# Altium integrated library Linear Technology Power Management Battery Management.IntLib: 626 symbols (part 29 of 56)
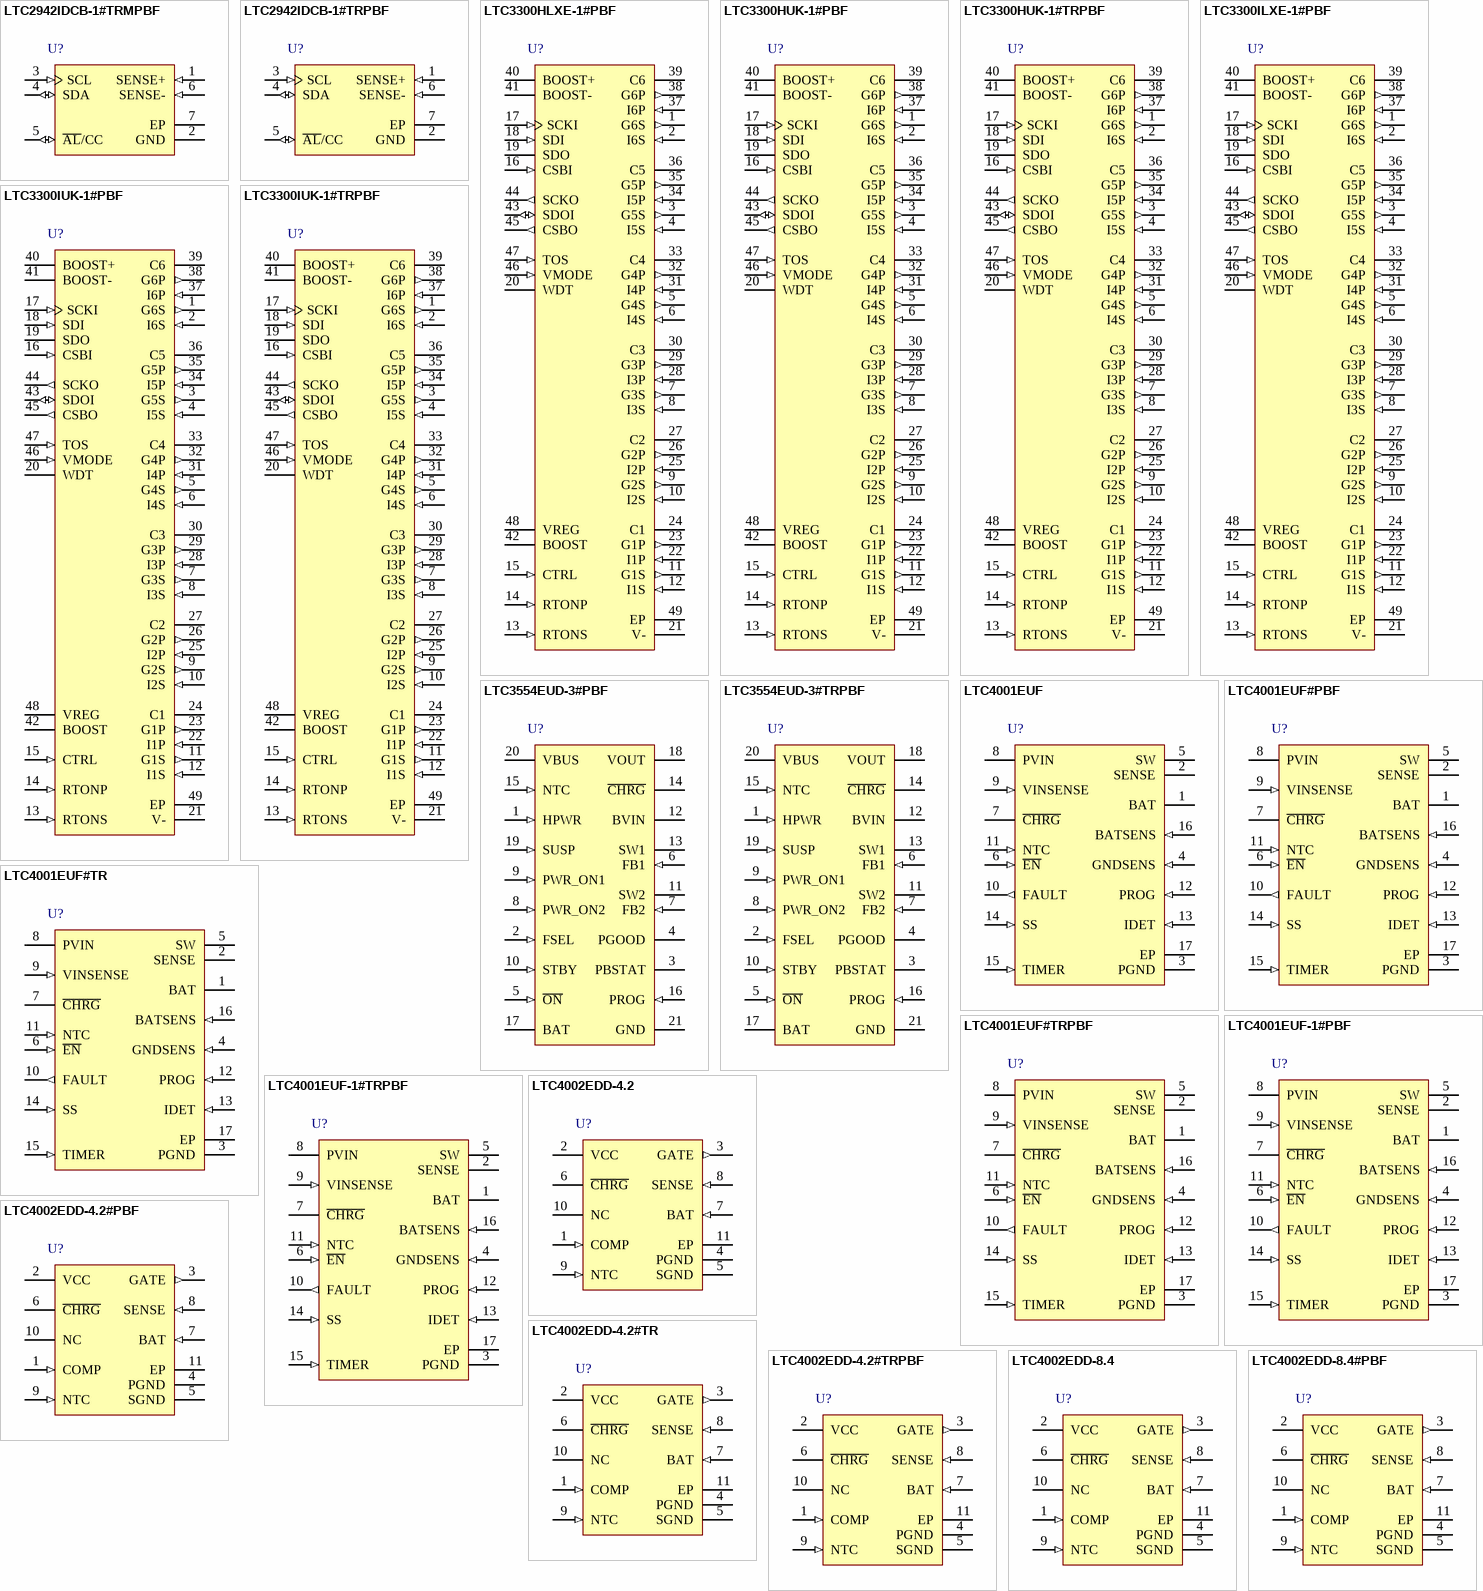
[diagram p50: symbols LTC2942IDCB-1#TRMPBF to LTC4002EDD-8.4#PBF]

## LTC4001EUF#TRPBF
designator U?
2 A Synchronous Buck Li-Ion Charger, 4 to 5.5 V Vin, 16-pin QFN (UF-16), -40 to 85 degC, Pb-Free, Tape and Reel; Manufacturer: Linear Technology; PartNumber: LTC4001EUF#TRPBF; Battery Chemistry: Li-Ion, Li-Polymer; Charge Termination: Timer; Float Voltage: 4.2 V; Max Charge Current(A): 2; Number of Cells: 1; Type of Charger: Switching; Vin Max(V): 5.5; Vin Min(V): 4; PackageVersion: Jun-10; PackageReference: UF-16; PackageDescription: 16-Pin Plastic QFN, Body 4 x 4 mm, Pitch 0.65 mm; Supplier 1: Digi-Key; Supplier Part Number 1: LTC4001EUF#TRPBF-ND; Supplier 2: Newark; Supplier Part Number 2: 56M8640; Packing: Tape and Reel; RoHS: TRUE; Mounting Technology: Surface Mount; Code_JEDEC: MO-220; ComponentLink1Description: Manufacturer URL; ComponentLink1URL: http://www.linear.com/; ComponentLink2Description: Datasheet; ComponentLink2URL: http://cds.linear.com/docs/en/datasheet/4001f.pdf; ComponentLink3Description: Package Specification; ComponentLink3URL: http://cds.linear.com/docs/en/packaging/QFN_16_05-08-1692.pdf
footprint LT-UF-16_N (QFN, 16-Leads, Body 4.1x4.1mm, Pitch 0.65mm, Thermal Pad 2.15x2.15mm, IPC Medium Density)
footprint LT-UF-16_L (QFN, 16-Leads, Body 4.1x4.1mm, Pitch 0.65mm, Thermal Pad 2.15x2.15mm, IPC High Density)
footprint LT-UF-16_M (QFN, 16-Leads, Body 4.1x4.1mm, Pitch 0.65mm, Thermal Pad 2.15x2.15mm, IPC Low Density)
pins: 1 BAT (power) "Battery Charger Output Terminal. Connect a 10uF ceramic chip capacitor between BAT and PGND to keep the ripple voltage small.", 2 SENSE "Internal Sense Resistor. Connect to external inductor.", 3 PGND (power) "Power Ground", 4 GNDSENS (in) "Ground Sense. Connect this pin to the negative battery terminal. GNDSENS provides a Kelvin connection for PGND and must be connected to PGND schematically.", 5 SW "Switch Node Connection. This pin connects to the drains of the internal main and synchronous power MOSFET switches. Connect to external inductor.", 6 ~{EN} (in) "Enable Input Pin. Pulling the E\N\ pin high places the LTC4001/LTC4001-1 into a low power state where the BAT drain current drops to less than 3uA and the supply current is reduced to less than 50uA. For normal operation, (See Datasheet)", 7 ~{CHRG} (hiz) "Open-Drain Charge Status Output. When the battery is being charged, C\H\R\G\ is pulled low by an internal N-channel MOSFET. When the charge current drops below the IDET threshold (set by the RIDET programming resistor) for (See Datasheet)", 8 PVIN (power) "Positive Supply Voltage Input. This pin connects to the power devices inside the chip. VIN ranges from 4V to 5.5V for normal operation. Operation down to the undervoltage lockout threshold is allowed with current limited (See Datasheet)", 9 VINSENSE (in) "Positive Supply Sense Input. This pin connects to the inputs of all input comparators (UVL, VIN to VBAT). It also supplies power to the controller portion of this chip. When the BATSENS pin rises to within 30mV of VINSENSE, (See Datasheet)", 10 FAULT (out) "Battery Fault. This pin is a logic high if a shorted battery is detected or if a temperature fault is detected. A temperature fault occurs with the temperature monitor circuit enabled and the thermistor temperature is either (See Datasheet)", 11 NTC (in) "Input to the NTC (Negative Temperature Coefficient) Thermistor Temperature Monitoring Circuit. Under normal operation, tie a thermistor from the NTC pin to the GNDSENS pin and a resistor of equal value from NTC to VIN. When (See Datasheet)", 12 PROG (in) "Charge Current Program. The RPROG resistor connects from this pin to GNDSENS, setting the current: RPROG =1.110k/IBAT(AMPS) where IBAT is the high rate battery charging current", 13 IDET (in) "Charge Rate Detection Threshold. Connecting a resistor, RIDET to GNDSENS programs the charge rate detection threshold. If RIDET = RPROG, C\H\R\G\ provides an IBAT/10 indication. For other thresholds see the Applications (See Datasheet)", 14 SS (in) "Soft-Start/Compensation. Provides soft-start function and compensation for the float voltage control loop and compensation for the charge current control loop. Tie a soft-start/compensation capacitor between this pin and (See Datasheet)", 15 TIMER (in) "Timer Capacitor. The timer period is set by placing a capacitor, CTIMER, to GNDSENS. Set CTIMER to:CTIMER = Time (Hrs) x 0.0733 (uF) where time is the desired charging time. Connect this pin to IDET to disable the timer. (See Datasheet)", 16 BATSENS (in) "Battery Sense Input. An internal resistor divider sets the final float voltage at this pin. The resistor divider is disconnected in sleep mode or when E\N\ = H to reduce the battery drain current. Connect this pin to the (See Datasheet)", 17 EP (power) "Ground. This pin must be soldered to the PCB ground (PGND) for electrical contact and rated thermal performance."

## LTC4001EUF-1#PBF
designator U?
2 A Synchronous Buck Li-Ion Charger, 4 to 5.5 V Vin, 16-pin QFN (UF-16), -40 to 85 degC, Pb-Free; Manufacturer: Linear Technology; PartNumber: LTC4001EUF-1#PBF; Battery Chemistry: Li-Ion, Li-Polymer; Charge Termination: Timer; Float Voltage: 4.1 V; Max Charge Current(A): 2; Number of Cells: 1; Type of Charger: Switching; Vin Max(V): 5.5; Vin Min(V): 4; DatasheetVersion: Rev. A; PackageVersion: Jun-10; PackageReference: UF-16; PackageDescription: 16-Pin Plastic QFN, Body 4 x 4 mm, Pitch 0.65 mm; Supplier 1: Digi-Key; Supplier Part Number 1: LTC4001EUF-1#PBF-ND; Supplier 2: Newark; Supplier Part Number 2: 56M8636; RoHS: TRUE; Mounting Technology: Surface Mount; Code_JEDEC: MO-220; ComponentLink1Description: Manufacturer URL; ComponentLink1URL: http://www.linear.com/; ComponentLink2Description: Datasheet; ComponentLink2URL: http://cds.linear.com/docs/en/datasheet/40011fa.pdf; ComponentLink3Description: Package Specification; ComponentLink3URL: http://cds.linear.com/docs/en/packaging/QFN_16_05-08-1692.pdf
footprint LT-UF-16_N (QFN, 16-Leads, Body 4.1x4.1mm, Pitch 0.65mm, Thermal Pad 2.15x2.15mm, IPC Medium Density)
footprint LT-UF-16_L (QFN, 16-Leads, Body 4.1x4.1mm, Pitch 0.65mm, Thermal Pad 2.15x2.15mm, IPC High Density)
footprint LT-UF-16_M (QFN, 16-Leads, Body 4.1x4.1mm, Pitch 0.65mm, Thermal Pad 2.15x2.15mm, IPC Low Density)
pins: 1 BAT (power) "Battery Charger Output Terminal. Connect a 10uF ceramic chip capacitor between BAT and PGND to keep the ripple voltage small.", 2 SENSE "Internal Sense Resistor. Connect to external inductor.", 3 PGND (power) "Power Ground", 4 GNDSENS (in) "Ground Sense. Connect this pin to the negative battery terminal. GNDSENS provides a Kelvin connection for PGND and must be connected to PGND schematically.", 5 SW "Switch Node Connection. This pin connects to the drains of the internal main and synchronous power MOSFET switches. Connect to external inductor.", 6 ~{EN} (in) "Enable Input Pin. Pulling the E\N\ pin high places the LTC4001/LTC4001-1 into a low power state where the BAT drain current drops to less than 3uA and the supply current is reduced to less than 50uA. For normal operation, (See Datasheet)", 7 ~{CHRG} (hiz) "Open-Drain Charge Status Output. When the battery is being charged, C\H\R\G\ is pulled low by an internal N-channel MOSFET. When the charge current drops below the IDET threshold (set by the RIDET programming resistor) for (See Datasheet)", 8 PVIN (power) "Positive Supply Voltage Input. This pin connects to the power devices inside the chip. VIN ranges from 4V to 5.5V for normal operation. Operation down to the undervoltage lockout threshold is allowed with current limited (See Datasheet)", 9 VINSENSE (in) "Positive Supply Sense Input. This pin connects to the inputs of all input comparators (UVL, VIN to VBAT). It also supplies power to the controller portion of this chip. When the BATSENS pin rises to within 30mV of VINSENSE, (See Datasheet)", 10 FAULT (out) "Battery Fault. This pin is a logic high if a shorted battery is detected or if a temperature fault is detected. A temperature fault occurs with the temperature monitor circuit enabled and the thermistor temperature is either (See Datasheet)", 11 NTC (in) "Input to the NTC (Negative Temperature Coefficient) Thermistor Temperature Monitoring Circuit. Under normal operation, tie a thermistor from the NTC pin to the GNDSENS pin and a resistor of equal value from NTC to VIN. When (See Datasheet)", 12 PROG (in) "Charge Current Program. The RPROG resistor connects from this pin to GNDSENS, setting the current: RPROG =1.110k/IBAT(AMPS) where IBAT is the high rate battery charging current", 13 IDET (in) "Charge Rate Detection Threshold. Connecting a resistor, RIDET to GNDSENS programs the charge rate detection threshold. If RIDET = RPROG, C\H\R\G\ provides an IBAT/10 indication. For other thresholds see the Applications (See Datasheet)", 14 SS (in) "Soft-Start/Compensation. Provides soft-start function and compensation for the float voltage control loop and compensation for the charge current control loop. Tie a soft-start/compensation capacitor between this pin and (See Datasheet)", 15 TIMER (in) "Timer Capacitor. The timer period is set by placing a capacitor, CTIMER, to GNDSENS. Set CTIMER to:CTIMER = Time (Hrs) x 0.0733 (uF) where time is the desired charging time. Connect this pin to IDET to disable the timer. (See Datasheet)", 16 BATSENS (in) "Battery Sense Input. An internal resistor divider sets the final float voltage at this pin. The resistor divider is disconnected in sleep mode or when E\N\ = H to reduce the battery drain current. Connect this pin to the (See Datasheet)", 17 EP (power) "Ground. This pin must be soldered to the PCB ground (PGND) for electrical contact and rated thermal performance."

## LTC4001EUF-1#TRPBF
designator U?
2 A Synchronous Buck Li-Ion Charger, 4 to 5.5 V Vin, 16-pin QFN (UF-16), -40 to 85 degC, Pb-Free, Tape and Reel; Manufacturer: Linear Technology; PartNumber: LTC4001EUF-1#TRPBF; Battery Chemistry: Li-Ion, Li-Polymer; Charge Termination: Timer; Float Voltage: 4.1 V; Max Charge Current(A): 2; Number of Cells: 1; Type of Charger: Switching; Vin Max(V): 5.5; Vin Min(V): 4; DatasheetVersion: Rev. A; PackageVersion: Jun-10; PackageReference: UF-16; PackageDescription: 16-Pin Plastic QFN, Body 4 x 4 mm, Pitch 0.65 mm; Supplier 1: Digi-Key; Supplier Part Number 1: LTC4001EUF-1#TRPBF-ND; Packing: Tape and Reel; RoHS: TRUE; Mounting Technology: Surface Mount; Code_JEDEC: MO-220; ComponentLink1Description: Manufacturer URL; ComponentLink1URL: http://www.linear.com/; ComponentLink2Description: Datasheet; ComponentLink2URL: http://cds.linear.com/docs/en/datasheet/40011fa.pdf; ComponentLink3Description: Package Specification; ComponentLink3URL: http://cds.linear.com/docs/en/packaging/QFN_16_05-08-1692.pdf
footprint LT-UF-16_N (QFN, 16-Leads, Body 4.1x4.1mm, Pitch 0.65mm, Thermal Pad 2.15x2.15mm, IPC Medium Density)
footprint LT-UF-16_L (QFN, 16-Leads, Body 4.1x4.1mm, Pitch 0.65mm, Thermal Pad 2.15x2.15mm, IPC High Density)
footprint LT-UF-16_M (QFN, 16-Leads, Body 4.1x4.1mm, Pitch 0.65mm, Thermal Pad 2.15x2.15mm, IPC Low Density)
pins: 1 BAT (power) "Battery Charger Output Terminal. Connect a 10uF ceramic chip capacitor between BAT and PGND to keep the ripple voltage small.", 2 SENSE "Internal Sense Resistor. Connect to external inductor.", 3 PGND (power) "Power Ground", 4 GNDSENS (in) "Ground Sense. Connect this pin to the negative battery terminal. GNDSENS provides a Kelvin connection for PGND and must be connected to PGND schematically.", 5 SW "Switch Node Connection. This pin connects to the drains of the internal main and synchronous power MOSFET switches. Connect to external inductor.", 6 ~{EN} (in) "Enable Input Pin. Pulling the E\N\ pin high places the LTC4001/LTC4001-1 into a low power state where the BAT drain current drops to less than 3uA and the supply current is reduced to less than 50uA. For normal operation, (See Datasheet)", 7 ~{CHRG} (hiz) "Open-Drain Charge Status Output. When the battery is being charged, C\H\R\G\ is pulled low by an internal N-channel MOSFET. When the charge current drops below the IDET threshold (set by the RIDET programming resistor) for (See Datasheet)", 8 PVIN (power) "Positive Supply Voltage Input. This pin connects to the power devices inside the chip. VIN ranges from 4V to 5.5V for normal operation. Operation down to the undervoltage lockout threshold is allowed with current limited (See Datasheet)", 9 VINSENSE (in) "Positive Supply Sense Input. This pin connects to the inputs of all input comparators (UVL, VIN to VBAT). It also supplies power to the controller portion of this chip. When the BATSENS pin rises to within 30mV of VINSENSE, (See Datasheet)", 10 FAULT (out) "Battery Fault. This pin is a logic high if a shorted battery is detected or if a temperature fault is detected. A temperature fault occurs with the temperature monitor circuit enabled and the thermistor temperature is either (See Datasheet)", 11 NTC (in) "Input to the NTC (Negative Temperature Coefficient) Thermistor Temperature Monitoring Circuit. Under normal operation, tie a thermistor from the NTC pin to the GNDSENS pin and a resistor of equal value from NTC to VIN. When (See Datasheet)", 12 PROG (in) "Charge Current Program. The RPROG resistor connects from this pin to GNDSENS, setting the current: RPROG =1.110k/IBAT(AMPS) where IBAT is the high rate battery charging current", 13 IDET (in) "Charge Rate Detection Threshold. Connecting a resistor, RIDET to GNDSENS programs the charge rate detection threshold. If RIDET = RPROG, C\H\R\G\ provides an IBAT/10 indication. For other thresholds see the Applications (See Datasheet)", 14 SS (in) "Soft-Start/Compensation. Provides soft-start function and compensation for the float voltage control loop and compensation for the charge current control loop. Tie a soft-start/compensation capacitor between this pin and (See Datasheet)", 15 TIMER (in) "Timer Capacitor. The timer period is set by placing a capacitor, CTIMER, to GNDSENS. Set CTIMER to:CTIMER = Time (Hrs) x 0.0733 (uF) where time is the desired charging time. Connect this pin to IDET to disable the timer. (See Datasheet)", 16 BATSENS (in) "Battery Sense Input. An internal resistor divider sets the final float voltage at this pin. The resistor divider is disconnected in sleep mode or when E\N\ = H to reduce the battery drain current. Connect this pin to the (See Datasheet)", 17 EP (power) "Ground. This pin must be soldered to the PCB ground (PGND) for electrical contact and rated thermal performance."

## LTC4002EDD-4.2
designator U?
Standalone Li-Ion Switch Mode Battery Charger, 4.7 to 22 V Vin, 10-pin SON (DD-10), -40 to 85 degC; Manufacturer: Linear Technology; PartNumber: LTC4002EDD-4.2; Battery Chemistry: Li-Ion, Li-Polymer; Charge Termination: On-board timer; Float Voltage: 4.2 V; Number of Cells: 1; Type of Charger: Switching; Vin Max(V): 22; Vin Min(V): 4.7; PackageVersion: Rev. C, 06/2010; PackageReference: DD-10; PackageDescription: 10-Pin Plastic DFN, Body 3 x 3 mm, Pitch 0.5 mm; Supplier 1: Digi-Key; Supplier Part Number 1: LTC4002EDD-4.2-ND; RoHS: FALSE; Mounting Technology: Surface Mount; Code_JEDEC: MO-229; ComponentLink1Description: Manufacturer URL; ComponentLink1URL: http://www.linear.com/; ComponentLink2Description: Datasheet; ComponentLink2URL: http://cds.linear.com/docs/en/datasheet/4002f.pdf; ComponentLink3Description: Package Specification; ComponentLink3URL: http://cds.linear.com/docs/en/packaging/DFN_10_05-08-1699.pdf
footprint LT-DD-10_V (SON, 10-Leads, Body 3x3mm, Pitch 0.5mm, Thermal Pad 2.38x1.65mm)
pins: 1 COMP (in) "Compensation, Soft-Start and Shutdown Control Pin. The COMP pin is the control signal of the inner loop of the current mode PWM. Charging begins when the COMP pin reaches 800mV. The recommended compensation components are a (See Datasheet)", 2 VCC (power) "Positive Supply Voltage Input. VCC can range from VBAT(FLT) + 0.5V to 22V. A 0.1uF or higher capacitor is required at the VCC pin with the lead length kept to a minimum. A 10uF low ESR capacitor is also required at the (See Datasheet)", 3 GATE (out) "Gate Drive Output. Driver Output for the P-Channel MOSFET. The voltage at this pin is internally clamped to 8V below VCC, allowing a low voltage MOSFET with gate-to-source breakdown voltage of 8V or less to be used.", 4 PGND (power) "IC Ground. The exposed pad (DFN) must be soldered to PCB ground to provide both electrical contact and optimum thermal performance.", 5 SGND (power) "IC Ground. The exposed pad (DFN) must be soldered to PCB ground to provide both electrical contact and optimum thermal performance.", 6 ~{CHRG} (hiz) "Open-Drain Charge Status Output. When the battery is being charged, the C\H\R\G\ pin is pulled low by an internal N-channel MOSFET. When the charge current drops below the End-of-Charge threshold for more than 120us, the (See Datasheet)", 7 BAT (in) "Battery Sense Input. A bypass capacitor of 22uF is required to minimize ripple voltage. An internal resistor divider, which is disconnected in sleepmode, sets the final float voltage at this pin. If the battery connection is (See Datasheet)", 8 SENSE (in) "Current Amplifier Sense Input. A sense resistor, RSENSE, must be connected between the SENSE and BAT pins. The maximum charge current is equal to 100mV/RSENSE.", 9 NTC (in) "NTC (Negative Temperature Coefficient) Thermistor Input. With an external 10kohm NTC thermistor to ground, this pin senses the temperature of the battery pack and stops the charger when the temperature is out of range.", 10 NC "No Connect.", 11 EP (power) "IC Ground. The exposed pad (DFN) must be soldered to PCB ground to provide both electrical contact and optimum thermal performance."

## LTC4002EDD-4.2#PBF
designator U?
Standalone Li-Ion Switch Mode Battery Charger, 4.7 to 22 V Vin, 10-pin SON (DD-10), -40 to 85 degC, Pb-Free; Manufacturer: Linear Technology; PartNumber: LTC4002EDD-4.2#PBF; Battery Chemistry: Li-Ion, Li-Polymer; Charge Termination: On-board timer; Float Voltage: 4.2 V; Number of Cells: 1; Type of Charger: Switching; Vin Max(V): 22; Vin Min(V): 4.7; PackageVersion: Rev. C, 06/2010; PackageReference: DD-10; PackageDescription: 10-Pin Plastic DFN, Body 3 x 3 mm, Pitch 0.5 mm; Supplier 1: Digi-Key; Supplier Part Number 1: LTC4002EDD-4.2#PBF-ND; Supplier 2: Farnell; Supplier Part Number 2: 1648025; Supplier 3: Newark; Supplier Part Number 3: 58M0807; RoHS: TRUE; Mounting Technology: Surface Mount; Code_JEDEC: MO-229; ComponentLink1Description: Manufacturer URL; ComponentLink1URL: http://www.linear.com/; ComponentLink2Description: Datasheet; ComponentLink2URL: http://cds.linear.com/docs/en/datasheet/4002f.pdf; ComponentLink3Description: Package Specification; ComponentLink3URL: http://cds.linear.com/docs/en/packaging/DFN_10_05-08-1699.pdf
footprint LT-DD-10_V (SON, 10-Leads, Body 3x3mm, Pitch 0.5mm, Thermal Pad 2.38x1.65mm)
pins: 1 COMP (in) "Compensation, Soft-Start and Shutdown Control Pin. The COMP pin is the control signal of the inner loop of the current mode PWM. Charging begins when the COMP pin reaches 800mV. The recommended compensation components are a (See Datasheet)", 2 VCC (power) "Positive Supply Voltage Input. VCC can range from VBAT(FLT) + 0.5V to 22V. A 0.1uF or higher capacitor is required at the VCC pin with the lead length kept to a minimum. A 10uF low ESR capacitor is also required at the (See Datasheet)", 3 GATE (out) "Gate Drive Output. Driver Output for the P-Channel MOSFET. The voltage at this pin is internally clamped to 8V below VCC, allowing a low voltage MOSFET with gate-to-source breakdown voltage of 8V or less to be used.", 4 PGND (power) "IC Ground. The exposed pad (DFN) must be soldered to PCB ground to provide both electrical contact and optimum thermal performance.", 5 SGND (power) "IC Ground. The exposed pad (DFN) must be soldered to PCB ground to provide both electrical contact and optimum thermal performance.", 6 ~{CHRG} (hiz) "Open-Drain Charge Status Output. When the battery is being charged, the C\H\R\G\ pin is pulled low by an internal N-channel MOSFET. When the charge current drops below the End-of-Charge threshold for more than 120us, the (See Datasheet)", 7 BAT (in) "Battery Sense Input. A bypass capacitor of 22uF is required to minimize ripple voltage. An internal resistor divider, which is disconnected in sleepmode, sets the final float voltage at this pin. If the battery connection is (See Datasheet)", 8 SENSE (in) "Current Amplifier Sense Input. A sense resistor, RSENSE, must be connected between the SENSE and BAT pins. The maximum charge current is equal to 100mV/RSENSE.", 9 NTC (in) "NTC (Negative Temperature Coefficient) Thermistor Input. With an external 10kohm NTC thermistor to ground, this pin senses the temperature of the battery pack and stops the charger when the temperature is out of range.", 10 NC "No Connect.", 11 EP (power) "IC Ground. The exposed pad (DFN) must be soldered to PCB ground to provide both electrical contact and optimum thermal performance."

## LTC4002EDD-4.2#TR
designator U?
Standalone Li-Ion Switch Mode Battery Charger, 4.7 to 22 V Vin, 10-pin SON (DD-10), -40 to 85 degC, Tape and Reel; Manufacturer: Linear Technology; PartNumber: LTC4002EDD-4.2#TR; Battery Chemistry: Li-Ion, Li-Polymer; Charge Termination: On-board timer; Float Voltage: 4.2 V; Number of Cells: 1; Type of Charger: Switching; Vin Max(V): 22; Vin Min(V): 4.7; PackageVersion: Rev. C, 06/2010; PackageReference: DD-10; PackageDescription: 10-Pin Plastic DFN, Body 3 x 3 mm, Pitch 0.5 mm; Supplier 1: Digi-Key; Supplier Part Number 1: LTC4002EDD-4.2#TR-ND; Packing: Tape and Reel; RoHS: FALSE; Mounting Technology: Surface Mount; Code_JEDEC: MO-229; ComponentLink1Description: Manufacturer URL; ComponentLink1URL: http://www.linear.com/; ComponentLink2Description: Datasheet; ComponentLink2URL: http://cds.linear.com/docs/en/datasheet/4002f.pdf; ComponentLink3Description: Package Specification; ComponentLink3URL: http://cds.linear.com/docs/en/packaging/DFN_10_05-08-1699.pdf
footprint LT-DD-10_V (SON, 10-Leads, Body 3x3mm, Pitch 0.5mm, Thermal Pad 2.38x1.65mm)
pins: 1 COMP (in) "Compensation, Soft-Start and Shutdown Control Pin. The COMP pin is the control signal of the inner loop of the current mode PWM. Charging begins when the COMP pin reaches 800mV. The recommended compensation components are a (See Datasheet)", 2 VCC (power) "Positive Supply Voltage Input. VCC can range from VBAT(FLT) + 0.5V to 22V. A 0.1uF or higher capacitor is required at the VCC pin with the lead length kept to a minimum. A 10uF low ESR capacitor is also required at the (See Datasheet)", 3 GATE (out) "Gate Drive Output. Driver Output for the P-Channel MOSFET. The voltage at this pin is internally clamped to 8V below VCC, allowing a low voltage MOSFET with gate-to-source breakdown voltage of 8V or less to be used.", 4 PGND (power) "IC Ground. The exposed pad (DFN) must be soldered to PCB ground to provide both electrical contact and optimum thermal performance.", 5 SGND (power) "IC Ground. The exposed pad (DFN) must be soldered to PCB ground to provide both electrical contact and optimum thermal performance.", 6 ~{CHRG} (hiz) "Open-Drain Charge Status Output. When the battery is being charged, the C\H\R\G\ pin is pulled low by an internal N-channel MOSFET. When the charge current drops below the End-of-Charge threshold for more than 120us, the (See Datasheet)", 7 BAT (in) "Battery Sense Input. A bypass capacitor of 22uF is required to minimize ripple voltage. An internal resistor divider, which is disconnected in sleepmode, sets the final float voltage at this pin. If the battery connection is (See Datasheet)", 8 SENSE (in) "Current Amplifier Sense Input. A sense resistor, RSENSE, must be connected between the SENSE and BAT pins. The maximum charge current is equal to 100mV/RSENSE.", 9 NTC (in) "NTC (Negative Temperature Coefficient) Thermistor Input. With an external 10kohm NTC thermistor to ground, this pin senses the temperature of the battery pack and stops the charger when the temperature is out of range.", 10 NC "No Connect.", 11 EP (power) "IC Ground. The exposed pad (DFN) must be soldered to PCB ground to provide both electrical contact and optimum thermal performance."

## LTC4002EDD-4.2#TRPBF
designator U?
Standalone Li-Ion Switch Mode Battery Charger, 4.7 to 22 V Vin, 10-pin SON (DD-10), -40 to 85 degC, Pb-Free, Tape and Reel; Manufacturer: Linear Technology; PartNumber: LTC4002EDD-4.2#TRPBF; Battery Chemistry: Li-Ion, Li-Polymer; Charge Termination: On-board timer; Float Voltage: 4.2 V; Number of Cells: 1; Type of Charger: Switching; Vin Max(V): 22; Vin Min(V): 4.7; PackageVersion: Rev. C, 06/2010; PackageReference: DD-10; PackageDescription: 10-Pin Plastic DFN, Body 3 x 3 mm, Pitch 0.5 mm; Supplier 1: Digi-Key; Supplier Part Number 1: LTC4002EDD-4.2#TRPBFTR-ND; Supplier 2: Digi-Key; Supplier Part Number 2: LTC4002EDD-4.2#TRPBFCT-ND; Supplier 3: Digi-Key; Supplier Part Number 3: LTC4002EDD-4.2#TRPBFDKR-ND; Packing: Tape and Reel; RoHS: TRUE; Mounting Technology: Surface Mount; Code_JEDEC: MO-229; ComponentLink1Description: Manufacturer URL; ComponentLink1URL: http://www.linear.com/; ComponentLink2Description: Datasheet; ComponentLink2URL: http://cds.linear.com/docs/en/datasheet/4002f.pdf; ComponentLink3Description: Package Specification; ComponentLink3URL: http://cds.linear.com/docs/en/packaging/DFN_10_05-08-1699.pdf
footprint LT-DD-10_V (SON, 10-Leads, Body 3x3mm, Pitch 0.5mm, Thermal Pad 2.38x1.65mm)
pins: 1 COMP (in) "Compensation, Soft-Start and Shutdown Control Pin. The COMP pin is the control signal of the inner loop of the current mode PWM. Charging begins when the COMP pin reaches 800mV. The recommended compensation components are a (See Datasheet)", 2 VCC (power) "Positive Supply Voltage Input. VCC can range from VBAT(FLT) + 0.5V to 22V. A 0.1uF or higher capacitor is required at the VCC pin with the lead length kept to a minimum. A 10uF low ESR capacitor is also required at the (See Datasheet)", 3 GATE (out) "Gate Drive Output. Driver Output for the P-Channel MOSFET. The voltage at this pin is internally clamped to 8V below VCC, allowing a low voltage MOSFET with gate-to-source breakdown voltage of 8V or less to be used.", 4 PGND (power) "IC Ground. The exposed pad (DFN) must be soldered to PCB ground to provide both electrical contact and optimum thermal performance.", 5 SGND (power) "IC Ground. The exposed pad (DFN) must be soldered to PCB ground to provide both electrical contact and optimum thermal performance.", 6 ~{CHRG} (hiz) "Open-Drain Charge Status Output. When the battery is being charged, the C\H\R\G\ pin is pulled low by an internal N-channel MOSFET. When the charge current drops below the End-of-Charge threshold for more than 120us, the (See Datasheet)", 7 BAT (in) "Battery Sense Input. A bypass capacitor of 22uF is required to minimize ripple voltage. An internal resistor divider, which is disconnected in sleepmode, sets the final float voltage at this pin. If the battery connection is (See Datasheet)", 8 SENSE (in) "Current Amplifier Sense Input. A sense resistor, RSENSE, must be connected between the SENSE and BAT pins. The maximum charge current is equal to 100mV/RSENSE.", 9 NTC (in) "NTC (Negative Temperature Coefficient) Thermistor Input. With an external 10kohm NTC thermistor to ground, this pin senses the temperature of the battery pack and stops the charger when the temperature is out of range.", 10 NC "No Connect.", 11 EP (power) "IC Ground. The exposed pad (DFN) must be soldered to PCB ground to provide both electrical contact and optimum thermal performance."

## LTC4002EDD-8.4
designator U?
Standalone Li-Ion Switch Mode Battery Charger, 8.9 to 22 V Vin, 10-pin SON (DD-10), -40 to 85 degC; Manufacturer: Linear Technology; PartNumber: LTC4002EDD-8.4; Battery Chemistry: Li-Ion, Li-Polymer; Charge Termination: On-board timer; Float Voltage: 8.4 V; Number of Cells: 2; Type of Charger: Switching; Vin Max(V): 22; Vin Min(V): 8.9; PackageVersion: Rev. C, 06/2010; PackageReference: DD-10; PackageDescription: 10-Pin Plastic DFN, Body 3 x 3 mm, Pitch 0.5 mm; Supplier 1: Digi-Key; Supplier Part Number 1: LTC4002EDD-8.4-ND; RoHS: FALSE; Mounting Technology: Surface Mount; Code_JEDEC: MO-229; ComponentLink1Description: Manufacturer URL; ComponentLink1URL: http://www.linear.com/; ComponentLink2Description: Datasheet; ComponentLink2URL: http://cds.linear.com/docs/en/datasheet/4002f.pdf; ComponentLink3Description: Package Specification; ComponentLink3URL: http://cds.linear.com/docs/en/packaging/DFN_10_05-08-1699.pdf
footprint LT-DD-10_V (SON, 10-Leads, Body 3x3mm, Pitch 0.5mm, Thermal Pad 2.38x1.65mm)
pins: 1 COMP (in) "Compensation, Soft-Start and Shutdown Control Pin. The COMP pin is the control signal of the inner loop of the current mode PWM. Charging begins when the COMP pin reaches 800mV. The recommended compensation components are a (See Datasheet)", 2 VCC (power) "Positive Supply Voltage Input. VCC can range from VBAT(FLT) + 0.5V to 22V. A 0.1uF or higher capacitor is required at the VCC pin with the lead length kept to a minimum. A 10uF low ESR capacitor is also required at the (See Datasheet)", 3 GATE (out) "Gate Drive Output. Driver Output for the P-Channel MOSFET. The voltage at this pin is internally clamped to 8V below VCC, allowing a low voltage MOSFET with gate-to-source breakdown voltage of 8V or less to be used.", 4 PGND (power) "IC Ground. The exposed pad (DFN) must be soldered to PCB ground to provide both electrical contact and optimum thermal performance.", 5 SGND (power) "IC Ground. The exposed pad (DFN) must be soldered to PCB ground to provide both electrical contact and optimum thermal performance.", 6 ~{CHRG} (hiz) "Open-Drain Charge Status Output. When the battery is being charged, the C\H\R\G\ pin is pulled low by an internal N-channel MOSFET. When the charge current drops below the End-of-Charge threshold for more than 120us, the (See Datasheet)", 7 BAT (in) "Battery Sense Input. A bypass capacitor of 22uF is required to minimize ripple voltage. An internal resistor divider, which is disconnected in sleepmode, sets the final float voltage at this pin. If the battery connection is (See Datasheet)", 8 SENSE (in) "Current Amplifier Sense Input. A sense resistor, RSENSE, must be connected between the SENSE and BAT pins. The maximum charge current is equal to 100mV/RSENSE.", 9 NTC (in) "NTC (Negative Temperature Coefficient) Thermistor Input. With an external 10kohm NTC thermistor to ground, this pin senses the temperature of the battery pack and stops the charger when the temperature is out of range.", 10 NC "No Connect.", 11 EP (power) "IC Ground. The exposed pad (DFN) must be soldered to PCB ground to provide both electrical contact and optimum thermal performance."

## LTC4002EDD-8.4#PBF
designator U?
Standalone Li-Ion Switch Mode Battery Charger, 8.9 to 22 V Vin, 10-pin SON (DD-10), -40 to 85 degC, Pb-Free; Manufacturer: Linear Technology; PartNumber: LTC4002EDD-8.4#PBF; Battery Chemistry: Li-Ion, Li-Polymer; Charge Termination: On-board timer; Float Voltage: 8.4 V; Number of Cells: 2; Type of Charger: Switching; Vin Max(V): 22; Vin Min(V): 8.9; PackageVersion: Rev. C, 06/2010; PackageReference: DD-10; PackageDescription: 10-Pin Plastic DFN, Body 3 x 3 mm, Pitch 0.5 mm; Supplier 1: Digi-Key; Supplier Part Number 1: LTC4002EDD-8.4#PBF-ND; Supplier 2: Farnell; Supplier Part Number 2: 1648026; Supplier 3: Newark; Supplier Part Number 3: 58M0811; RoHS: TRUE; Mounting Technology: Surface Mount; Code_JEDEC: MO-229; ComponentLink1Description: Manufacturer URL; ComponentLink1URL: http://www.linear.com/; ComponentLink2Description: Datasheet; ComponentLink2URL: http://cds.linear.com/docs/en/datasheet/4002f.pdf; ComponentLink3Description: Package Specification; ComponentLink3URL: http://cds.linear.com/docs/en/packaging/DFN_10_05-08-1699.pdf
footprint LT-DD-10_V (SON, 10-Leads, Body 3x3mm, Pitch 0.5mm, Thermal Pad 2.38x1.65mm)
pins: 1 COMP (in) "Compensation, Soft-Start and Shutdown Control Pin. The COMP pin is the control signal of the inner loop of the current mode PWM. Charging begins when the COMP pin reaches 800mV. The recommended compensation components are a (See Datasheet)", 2 VCC (power) "Positive Supply Voltage Input. VCC can range from VBAT(FLT) + 0.5V to 22V. A 0.1uF or higher capacitor is required at the VCC pin with the lead length kept to a minimum. A 10uF low ESR capacitor is also required at the (See Datasheet)", 3 GATE (out) "Gate Drive Output. Driver Output for the P-Channel MOSFET. The voltage at this pin is internally clamped to 8V below VCC, allowing a low voltage MOSFET with gate-to-source breakdown voltage of 8V or less to be used.", 4 PGND (power) "IC Ground. The exposed pad (DFN) must be soldered to PCB ground to provide both electrical contact and optimum thermal performance.", 5 SGND (power) "IC Ground. The exposed pad (DFN) must be soldered to PCB ground to provide both electrical contact and optimum thermal performance.", 6 ~{CHRG} (hiz) "Open-Drain Charge Status Output. When the battery is being charged, the C\H\R\G\ pin is pulled low by an internal N-channel MOSFET. When the charge current drops below the End-of-Charge threshold for more than 120us, the (See Datasheet)", 7 BAT (in) "Battery Sense Input. A bypass capacitor of 22uF is required to minimize ripple voltage. An internal resistor divider, which is disconnected in sleepmode, sets the final float voltage at this pin. If the battery connection is (See Datasheet)", 8 SENSE (in) "Current Amplifier Sense Input. A sense resistor, RSENSE, must be connected between the SENSE and BAT pins. The maximum charge current is equal to 100mV/RSENSE.", 9 NTC (in) "NTC (Negative Temperature Coefficient) Thermistor Input. With an external 10kohm NTC thermistor to ground, this pin senses the temperature of the battery pack and stops the charger when the temperature is out of range.", 10 NC "No Connect.", 11 EP (power) "IC Ground. The exposed pad (DFN) must be soldered to PCB ground to provide both electrical contact and optimum thermal performance."

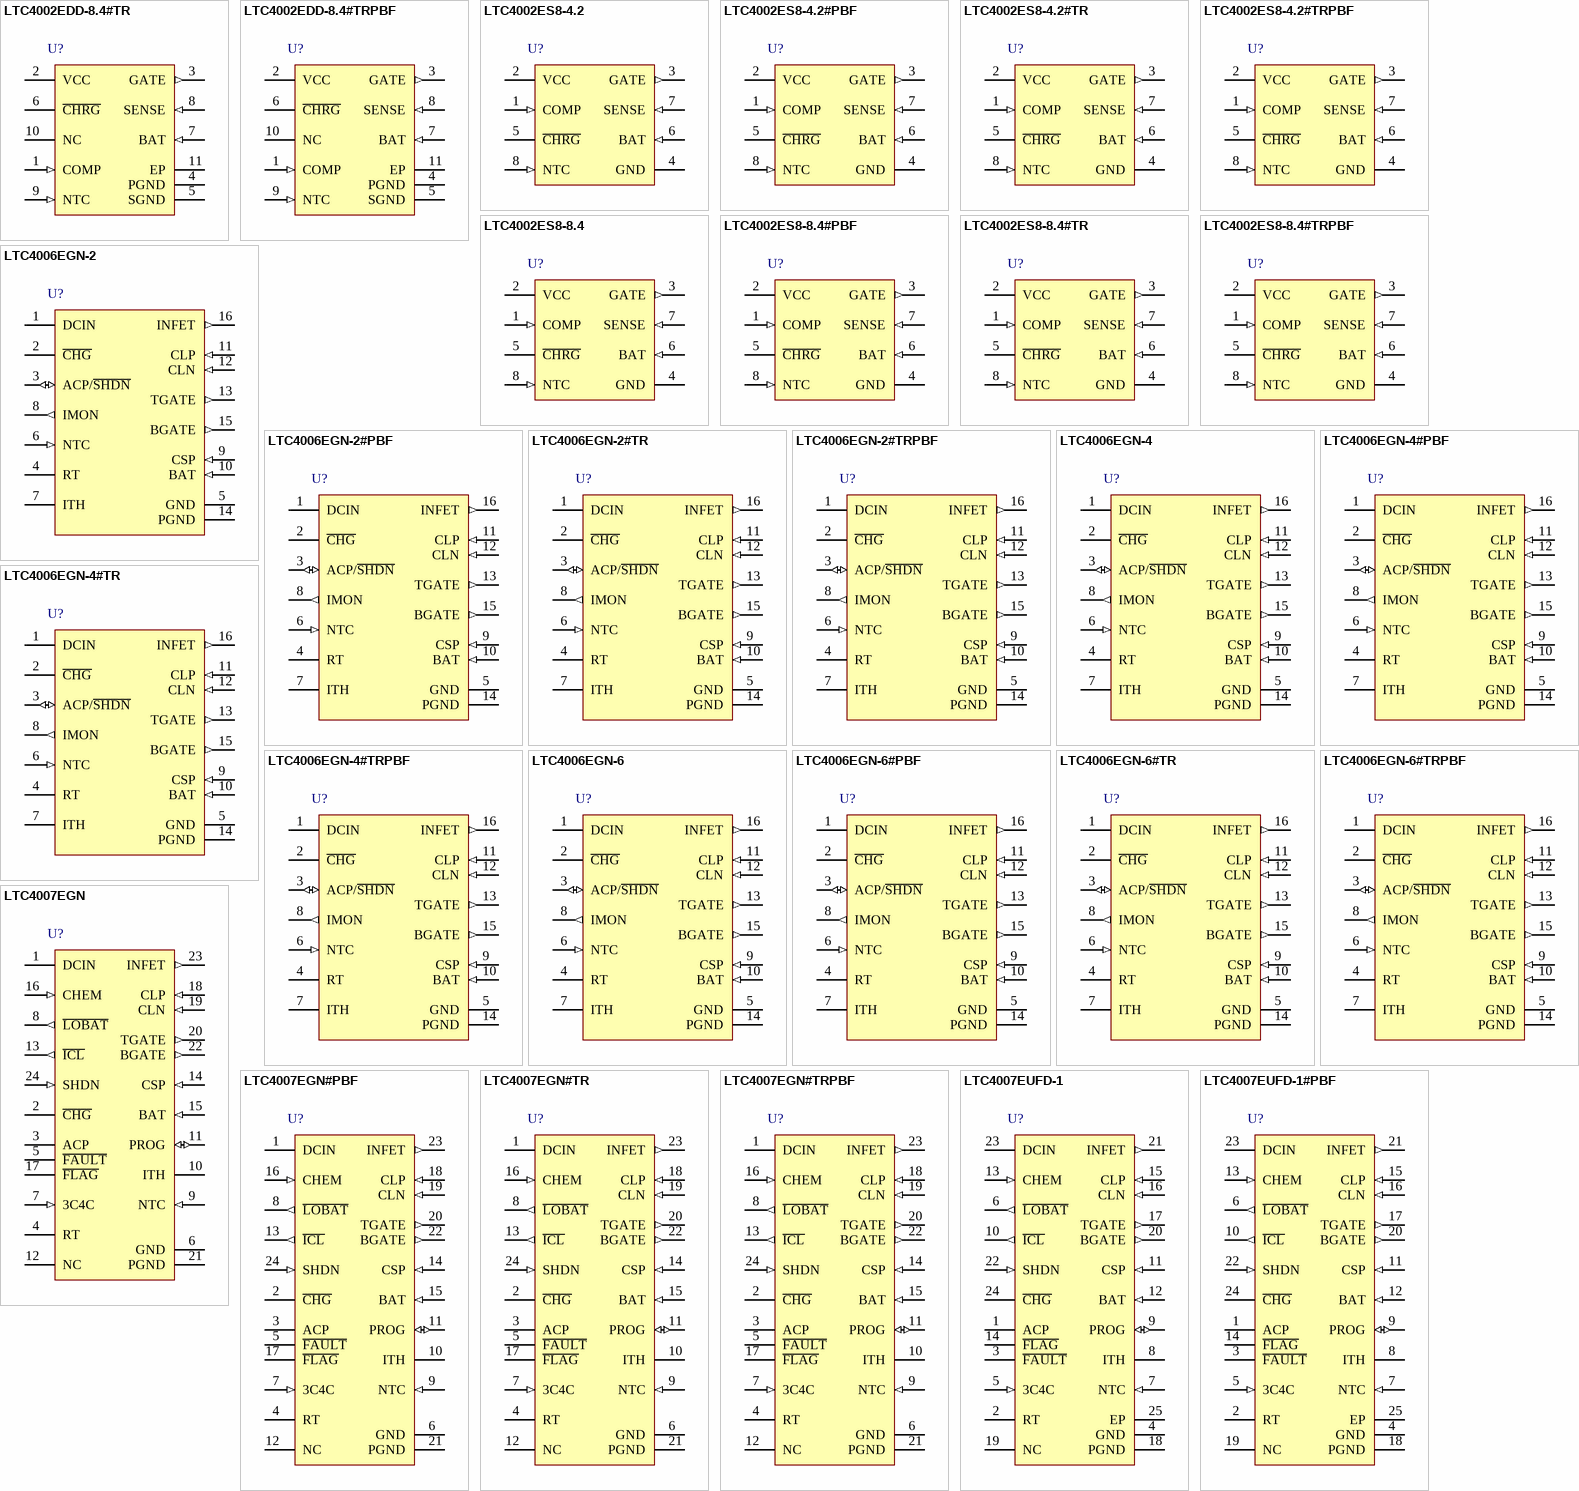
[diagram p12: symbols LTC4002EDD-8.4#TR to LTC4007EUFD-1#PBF]

## LTC4002EDD-8.4#TR
designator U?
Standalone Li-Ion Switch Mode Battery Charger, 8.9 to 22 V Vin, 10-pin SON (DD-10), -40 to 85 degC, Tape and Reel; Manufacturer: Linear Technology; PartNumber: LTC4002EDD-8.4#TR; Battery Chemistry: Li-Ion, Li-Polymer; Charge Termination: On-board timer; Float Voltage: 8.4 V; Number of Cells: 2; Type of Charger: Switching; Vin Max(V): 22; Vin Min(V): 8.9; PackageVersion: Rev. C, 06/2010; PackageReference: DD-10; PackageDescription: 10-Pin Plastic DFN, Body 3 x 3 mm, Pitch 0.5 mm; Supplier 1: Digi-Key; Supplier Part Number 1: LTC4002EDD-8.4#TR-ND; Packing: Tape and Reel; RoHS: FALSE; Mounting Technology: Surface Mount; Code_JEDEC: MO-229; ComponentLink1Description: Manufacturer URL; ComponentLink1URL: http://www.linear.com/; ComponentLink2Description: Datasheet; ComponentLink2URL: http://cds.linear.com/docs/en/datasheet/4002f.pdf; ComponentLink3Description: Package Specification; ComponentLink3URL: http://cds.linear.com/docs/en/packaging/DFN_10_05-08-1699.pdf
footprint LT-DD-10_V (SON, 10-Leads, Body 3x3mm, Pitch 0.5mm, Thermal Pad 2.38x1.65mm)
pins: 1 COMP (in) "Compensation, Soft-Start and Shutdown Control Pin. The COMP pin is the control signal of the inner loop of the current mode PWM. Charging begins when the COMP pin reaches 800mV. The recommended compensation components are a (See Datasheet)", 2 VCC (power) "Positive Supply Voltage Input. VCC can range from VBAT(FLT) + 0.5V to 22V. A 0.1uF or higher capacitor is required at the VCC pin with the lead length kept to a minimum. A 10uF low ESR capacitor is also required at the (See Datasheet)", 3 GATE (out) "Gate Drive Output. Driver Output for the P-Channel MOSFET. The voltage at this pin is internally clamped to 8V below VCC, allowing a low voltage MOSFET with gate-to-source breakdown voltage of 8V or less to be used.", 4 PGND (power) "IC Ground. The exposed pad (DFN) must be soldered to PCB ground to provide both electrical contact and optimum thermal performance.", 5 SGND (power) "IC Ground. The exposed pad (DFN) must be soldered to PCB ground to provide both electrical contact and optimum thermal performance.", 6 ~{CHRG} (hiz) "Open-Drain Charge Status Output. When the battery is being charged, the C\H\R\G\ pin is pulled low by an internal N-channel MOSFET. When the charge current drops below the End-of-Charge threshold for more than 120us, the (See Datasheet)", 7 BAT (in) "Battery Sense Input. A bypass capacitor of 22uF is required to minimize ripple voltage. An internal resistor divider, which is disconnected in sleepmode, sets the final float voltage at this pin. If the battery connection is (See Datasheet)", 8 SENSE (in) "Current Amplifier Sense Input. A sense resistor, RSENSE, must be connected between the SENSE and BAT pins. The maximum charge current is equal to 100mV/RSENSE.", 9 NTC (in) "NTC (Negative Temperature Coefficient) Thermistor Input. With an external 10kohm NTC thermistor to ground, this pin senses the temperature of the battery pack and stops the charger when the temperature is out of range.", 10 NC "No Connect.", 11 EP (power) "IC Ground. The exposed pad (DFN) must be soldered to PCB ground to provide both electrical contact and optimum thermal performance."

## LTC4002EDD-8.4#TRPBF
designator U?
Standalone Li-Ion Switch Mode Battery Charger, 8.9 to 22 V Vin, 10-pin SON (DD-10), -40 to 85 degC, Pb-Free, Tape and Reel; Manufacturer: Linear Technology; PartNumber: LTC4002EDD-8.4#TRPBF; Battery Chemistry: Li-Ion, Li-Polymer; Charge Termination: On-board timer; Float Voltage: 8.4 V; Number of Cells: 2; Type of Charger: Switching; Vin Max(V): 22; Vin Min(V): 8.9; PackageVersion: Rev. C, 06/2010; PackageReference: DD-10; PackageDescription: 10-Pin Plastic DFN, Body 3 x 3 mm, Pitch 0.5 mm; Supplier 1: Digi-Key; Supplier Part Number 1: LTC4002EDD-8.4#TRPBF-ND; Packing: Tape and Reel; RoHS: TRUE; Mounting Technology: Surface Mount; Code_JEDEC: MO-229; ComponentLink1Description: Manufacturer URL; ComponentLink1URL: http://www.linear.com/; ComponentLink2Description: Datasheet; ComponentLink2URL: http://cds.linear.com/docs/en/datasheet/4002f.pdf; ComponentLink3Description: Package Specification; ComponentLink3URL: http://cds.linear.com/docs/en/packaging/DFN_10_05-08-1699.pdf
footprint LT-DD-10_V (SON, 10-Leads, Body 3x3mm, Pitch 0.5mm, Thermal Pad 2.38x1.65mm)
pins: 1 COMP (in) "Compensation, Soft-Start and Shutdown Control Pin. The COMP pin is the control signal of the inner loop of the current mode PWM. Charging begins when the COMP pin reaches 800mV. The recommended compensation components are a (See Datasheet)", 2 VCC (power) "Positive Supply Voltage Input. VCC can range from VBAT(FLT) + 0.5V to 22V. A 0.1uF or higher capacitor is required at the VCC pin with the lead length kept to a minimum. A 10uF low ESR capacitor is also required at the (See Datasheet)", 3 GATE (out) "Gate Drive Output. Driver Output for the P-Channel MOSFET. The voltage at this pin is internally clamped to 8V below VCC, allowing a low voltage MOSFET with gate-to-source breakdown voltage of 8V or less to be used.", 4 PGND (power) "IC Ground. The exposed pad (DFN) must be soldered to PCB ground to provide both electrical contact and optimum thermal performance.", 5 SGND (power) "IC Ground. The exposed pad (DFN) must be soldered to PCB ground to provide both electrical contact and optimum thermal performance.", 6 ~{CHRG} (hiz) "Open-Drain Charge Status Output. When the battery is being charged, the C\H\R\G\ pin is pulled low by an internal N-channel MOSFET. When the charge current drops below the End-of-Charge threshold for more than 120us, the (See Datasheet)", 7 BAT (in) "Battery Sense Input. A bypass capacitor of 22uF is required to minimize ripple voltage. An internal resistor divider, which is disconnected in sleepmode, sets the final float voltage at this pin. If the battery connection is (See Datasheet)", 8 SENSE (in) "Current Amplifier Sense Input. A sense resistor, RSENSE, must be connected between the SENSE and BAT pins. The maximum charge current is equal to 100mV/RSENSE.", 9 NTC (in) "NTC (Negative Temperature Coefficient) Thermistor Input. With an external 10kohm NTC thermistor to ground, this pin senses the temperature of the battery pack and stops the charger when the temperature is out of range.", 10 NC "No Connect.", 11 EP (power) "IC Ground. The exposed pad (DFN) must be soldered to PCB ground to provide both electrical contact and optimum thermal performance."

## LTC4002ES8-4.2
designator U?
Standalone Li-Ion Switch Mode Battery Charger, 4.7 to 22 V Vin, 8-pin SOIC (S8-8), -40 to 85 degC; Manufacturer: Linear Technology; PartNumber: LTC4002ES8-4.2; Battery Chemistry: Li-Ion, Li-Polymer; Charge Termination: On-board timer; Float Voltage: 4.2 V; Number of Cells: 1; Type of Charger: Switching; Vin Max(V): 22; Vin Min(V): 4.7; PackageVersion: Rev. G, 03/2012; PackageReference: S8-8; PackageDescription: 8-Pin Plastic Small Outline (Narrow .150 Inch), Body 4.9 x 3.9 mm, Pitch 1.27 mm; Supplier 1: Digi-Key; Supplier Part Number 1: LTC4002ES8-4.2-ND; RoHS: FALSE; Mounting Technology: Surface Mount; ComponentLink1Description: Manufacturer URL; ComponentLink1URL: http://www.linear.com/; ComponentLink2Description: Datasheet; ComponentLink2URL: http://cds.linear.com/docs/en/datasheet/4002f.pdf; ComponentLink3Description: Package Specification; ComponentLink3URL: http://cds.linear.com/docs/en/packaging/05081610_G_SO8.pdf
footprint LT-S8-8_N (SOIC, 8-Leads, Body 5x4mm, Pitch 1.27mm, IPC Medium Density)
footprint LT-S8-8_L (SOIC, 8-Leads, Body 5x4mm, Pitch 1.27mm, IPC High Density)
footprint LT-S8-8_M (SOIC, 8-Leads, Body 5x4mm, Pitch 1.27mm, IPC Low Density)
pins: 1 COMP (in) "Compensation, Soft-Start and Shutdown Control Pin. The COMP pin is the control signal of the inner loop of the current mode PWM. Charging begins when the COMP pin reaches 800mV. The recommended compensation components are a (See Datasheet)", 2 VCC (power) "Positive Supply Voltage Input. VCC can range from VBAT(FLT) + 0.5V to 22V. A 0.1uF or higher capacitor is required at the VCC pin with the lead length kept to a minimum. A 10uF low ESR capacitor is also required at the (See Datasheet)", 3 GATE (out) "Gate Drive Output. Driver Output for the P-Channel MOSFET. The voltage at this pin is internally clamped to 8V below VCC, allowing a low voltage MOSFET with gate-to-source breakdown voltage of 8V or less to be used.", 4 GND (power) "IC Ground. The exposed pad (DFN) must be soldered to PCB ground to provide both electrical contact and optimum thermal performance.", 5 ~{CHRG} (hiz) "Open-Drain Charge Status Output. When the battery is being charged, the C\H\R\G\ pin is pulled low by an internal N-channel MOSFET. When the charge current drops below the End-of-Charge threshold for more than 120us, the (See Datasheet)", 6 BAT (in) "Battery Sense Input. A bypass capacitor of 22uF is required to minimize ripple voltage. An internal resistor divider, which is disconnected in sleep mode, sets the final float voltage at this pin. If the battery connection (See Datasheet)", 7 SENSE (in) "Current Amplifier Sense Input. A sense resistor, RSENSE, must be connected between the SENSE and BAT pins. The maximum charge current is equal to 100mV/RSENSE.", 8 NTC (in) "NTC (Negative Temperature Coefficient) Thermistor Input. With an external 10kohm NTC thermistor to ground, this pin senses the temperature of the battery pack and stops the charger when the temperature is out of range. When (See Datasheet)"

## LTC4002ES8-4.2#PBF
designator U?
Standalone Li-Ion Switch Mode Battery Charger, 4.7 to 22 V Vin, 8-pin SOIC (S8-8), -40 to 85 degC, Pb-Free; Manufacturer: Linear Technology; PartNumber: LTC4002ES8-4.2#PBF; Battery Chemistry: Li-Ion, Li-Polymer; Charge Termination: On-board timer; Float Voltage: 4.2 V; Number of Cells: 1; Type of Charger: Switching; Vin Max(V): 22; Vin Min(V): 4.7; PackageVersion: Rev. G, 03/2012; PackageReference: S8-8; PackageDescription: 8-Pin Plastic Small Outline (Narrow .150 Inch), Body 4.9 x 3.9 mm, Pitch 1.27 mm; Supplier 1: Digi-Key; Supplier Part Number 1: LTC4002ES8-4.2#PBF-ND; Supplier 2: Farnell; Supplier Part Number 2: 2102628; Supplier 3: Farnell; Supplier Part Number 3: 1556595; Supplier 4: Newark; Supplier Part Number 4: 73K4388; RoHS: TRUE; Mounting Technology: Surface Mount; ComponentLink1Description: Manufacturer URL; ComponentLink1URL: http://www.linear.com/; ComponentLink2Description: Datasheet; ComponentLink2URL: http://cds.linear.com/docs/en/datasheet/4002f.pdf; ComponentLink3Description: Package Specification; ComponentLink3URL: http://cds.linear.com/docs/en/packaging/05081610_G_SO8.pdf
footprint LT-S8-8_N (SOIC, 8-Leads, Body 5x4mm, Pitch 1.27mm, IPC Medium Density)
footprint LT-S8-8_L (SOIC, 8-Leads, Body 5x4mm, Pitch 1.27mm, IPC High Density)
footprint LT-S8-8_M (SOIC, 8-Leads, Body 5x4mm, Pitch 1.27mm, IPC Low Density)
pins: 1 COMP (in) "Compensation, Soft-Start and Shutdown Control Pin. The COMP pin is the control signal of the inner loop of the current mode PWM. Charging begins when the COMP pin reaches 800mV. The recommended compensation components are a (See Datasheet)", 2 VCC (power) "Positive Supply Voltage Input. VCC can range from VBAT(FLT) + 0.5V to 22V. A 0.1uF or higher capacitor is required at the VCC pin with the lead length kept to a minimum. A 10uF low ESR capacitor is also required at the (See Datasheet)", 3 GATE (out) "Gate Drive Output. Driver Output for the P-Channel MOSFET. The voltage at this pin is internally clamped to 8V below VCC, allowing a low voltage MOSFET with gate-to-source breakdown voltage of 8V or less to be used.", 4 GND (power) "IC Ground. The exposed pad (DFN) must be soldered to PCB ground to provide both electrical contact and optimum thermal performance.", 5 ~{CHRG} (hiz) "Open-Drain Charge Status Output. When the battery is being charged, the C\H\R\G\ pin is pulled low by an internal N-channel MOSFET. When the charge current drops below the End-of-Charge threshold for more than 120us, the (See Datasheet)", 6 BAT (in) "Battery Sense Input. A bypass capacitor of 22uF is required to minimize ripple voltage. An internal resistor divider, which is disconnected in sleep mode, sets the final float voltage at this pin. If the battery connection (See Datasheet)", 7 SENSE (in) "Current Amplifier Sense Input. A sense resistor, RSENSE, must be connected between the SENSE and BAT pins. The maximum charge current is equal to 100mV/RSENSE.", 8 NTC (in) "NTC (Negative Temperature Coefficient) Thermistor Input. With an external 10kohm NTC thermistor to ground, this pin senses the temperature of the battery pack and stops the charger when the temperature is out of range. When (See Datasheet)"

## LTC4002ES8-4.2#TR
designator U?
Standalone Li-Ion Switch Mode Battery Charger, 4.7 to 22 V Vin, 8-pin SOIC (S8-8), -40 to 85 degC, Tape and Reel; Manufacturer: Linear Technology; PartNumber: LTC4002ES8-4.2#TR; Battery Chemistry: Li-Ion, Li-Polymer; Charge Termination: On-board timer; Float Voltage: 4.2 V; Number of Cells: 1; Type of Charger: Switching; Vin Max(V): 22; Vin Min(V): 4.7; PackageVersion: Rev. G, 03/2012; PackageReference: S8-8; PackageDescription: 8-Pin Plastic Small Outline (Narrow .150 Inch), Body 4.9 x 3.9 mm, Pitch 1.27 mm; Supplier 1: Digi-Key; Supplier Part Number 1: LTC4002ES8-4.2#TR-ND; Packing: Tape and Reel; RoHS: FALSE; Mounting Technology: Surface Mount; ComponentLink1Description: Manufacturer URL; ComponentLink1URL: http://www.linear.com/; ComponentLink2Description: Datasheet; ComponentLink2URL: http://cds.linear.com/docs/en/datasheet/4002f.pdf; ComponentLink3Description: Package Specification; ComponentLink3URL: http://cds.linear.com/docs/en/packaging/05081610_G_SO8.pdf
footprint LT-S8-8_N (SOIC, 8-Leads, Body 5x4mm, Pitch 1.27mm, IPC Medium Density)
footprint LT-S8-8_L (SOIC, 8-Leads, Body 5x4mm, Pitch 1.27mm, IPC High Density)
footprint LT-S8-8_M (SOIC, 8-Leads, Body 5x4mm, Pitch 1.27mm, IPC Low Density)
pins: 1 COMP (in) "Compensation, Soft-Start and Shutdown Control Pin. The COMP pin is the control signal of the inner loop of the current mode PWM. Charging begins when the COMP pin reaches 800mV. The recommended compensation components are a (See Datasheet)", 2 VCC (power) "Positive Supply Voltage Input. VCC can range from VBAT(FLT) + 0.5V to 22V. A 0.1uF or higher capacitor is required at the VCC pin with the lead length kept to a minimum. A 10uF low ESR capacitor is also required at the (See Datasheet)", 3 GATE (out) "Gate Drive Output. Driver Output for the P-Channel MOSFET. The voltage at this pin is internally clamped to 8V below VCC, allowing a low voltage MOSFET with gate-to-source breakdown voltage of 8V or less to be used.", 4 GND (power) "IC Ground. The exposed pad (DFN) must be soldered to PCB ground to provide both electrical contact and optimum thermal performance.", 5 ~{CHRG} (hiz) "Open-Drain Charge Status Output. When the battery is being charged, the C\H\R\G\ pin is pulled low by an internal N-channel MOSFET. When the charge current drops below the End-of-Charge threshold for more than 120us, the (See Datasheet)", 6 BAT (in) "Battery Sense Input. A bypass capacitor of 22uF is required to minimize ripple voltage. An internal resistor divider, which is disconnected in sleep mode, sets the final float voltage at this pin. If the battery connection (See Datasheet)", 7 SENSE (in) "Current Amplifier Sense Input. A sense resistor, RSENSE, must be connected between the SENSE and BAT pins. The maximum charge current is equal to 100mV/RSENSE.", 8 NTC (in) "NTC (Negative Temperature Coefficient) Thermistor Input. With an external 10kohm NTC thermistor to ground, this pin senses the temperature of the battery pack and stops the charger when the temperature is out of range. When (See Datasheet)"